# EAGLE library part IMU_YZ2 (library paparazzi3)
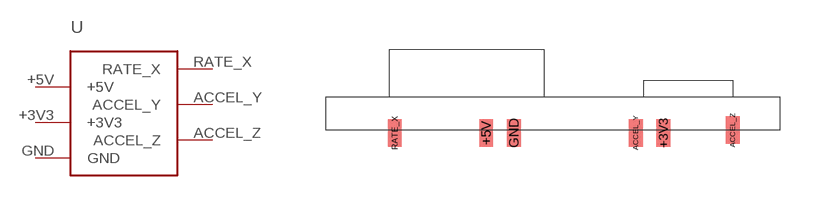
[diagram p28: symbol with the pads of IMU_YZ_2; footprint IMU_YZ_2]

Designator prefix -

## IMU_YZ2  [IMU_YZ_2]
+3V3  +3V3
+5V  +5V
ACCEL_Y  ACCEL_Y
ACCEL_Z  ACCEL_Z
GND  GND
RATE_X  RATE_X

## Footprint IMU_YZ_2 (pad centres in mm)
smd 0.635 x 1.27: +3V3 5.08,-0.889; +5V -3.048,-0.889; ACCEL_Y 3.81,-0.889; ACCEL_Z 8.255,-0.762; GND -1.778,-0.889; RATE_X -7.239,-0.889